# EAGLE library part FLATPACK2_CON (library flatpack2-edge-connector)
Edge connector for an Eltek Flatpack2
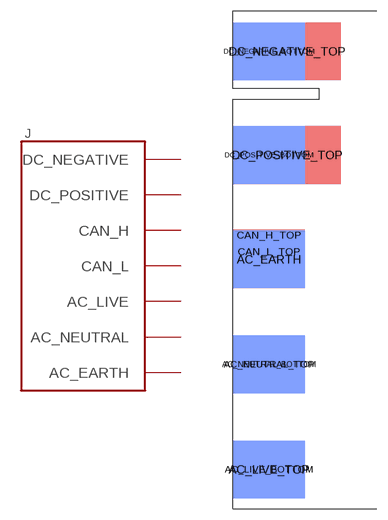
[diagram p0: symbol with the pads of FLATPACK2_CON; footprint FLATPACK2_CON]

Designator prefix J

## FLATPACK2_CON  [FLATPACK2_CON]
AC_EARTH  AC_EARTH  in
AC_LIVE_BOTTOM  AC_LIVE  in
AC_LIVE_TOP  AC_LIVE  in
AC_NEUTRAL_BOTTOM  AC_NEUTRAL  in
AC_NEUTRAL_TOP  AC_NEUTRAL  in
CAN_H_TOP  CAN_H
CAN_L_TOP  CAN_L
DC_NEGATIVE_BOTTOM  DC_NEGATIVE  out
DC_NEGATIVE_TOP  DC_NEGATIVE  out
DC_POSITIVE_BOTTOM  DC_POSITIVE  out
DC_POSITIVE_TOP  DC_POSITIVE  out

## Footprint FLATPACK2_CON (pad centres in mm)
smd 10 x 8 bottom: AC_EARTH 5,0.05; AC_LIVE_BOTTOM 5,-29.15; AC_NEUTRAL_BOTTOM 5,-14.55; DC_NEGATIVE_BOTTOM 5,28.95; DC_POSITIVE_BOTTOM 5,14.55
smd 10 x 8: AC_LIVE_TOP 5,-29.15; AC_NEUTRAL_TOP 5,-14.55
smd 10 x 1.5: CAN_H_TOP 5,3.45; CAN_L_TOP 5,1.15
smd 15 x 8: DC_NEGATIVE_TOP 7.5,28.95; DC_POSITIVE_TOP 7.5,14.55